# Altium schematic symbol library GJM1555C1H5R1BB01D.SchLib: 1 symbol
Pins are listed as number, name and electrical type; pins without a type are passive.

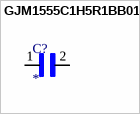
[diagram p0: symbol GJM1555C1H5R1BB01D]

## GJM1555C1H5R1BB01D
designator C?
5.1 pF Â±0.1pF 50V Ceramic Capacitor C0G, NP0 0402 (1005 Metric); MF: Murata; MP: GJM1555C1H5R1BB01D; Value: *; Digi-Key_Part_Number: 490-11222-2-ND; Check_prices: https://www.snapeda.com/parts/GJM1555C1H5R1BB01D/Murata+Electronics+North+America/view-part/?ref=eda; Package: 1005 Taiyo Yuden; SnapEDA_Link: https://www.snapeda.com/parts/GJM1555C1H5R1BB01D/Murata+Electronics+North+America/view-part/?ref=snap; Purchase-URL: https://pricing.snapeda.com/search/part/GJM1555C1H5R1BB01D/?ref=eda
pins: 1, 2